# EAGLE library part 2QSP16-8E (library resistor-bourns)
BOURNS RESISTOR NETWORK
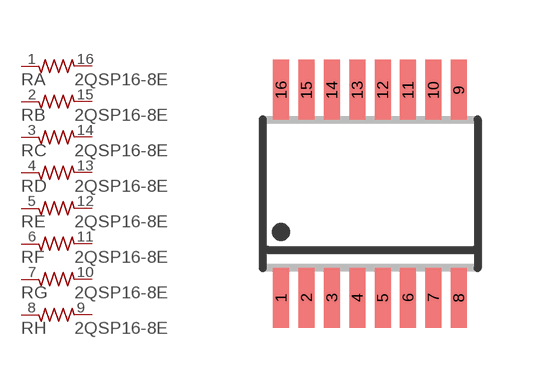
[diagram p13: symbol with the pads of 2QSP16; footprint 2QSP16]

Designator prefix R; gates A=R1NV B=R1NV C=R1NV D=R1NV E=R1NV F=R1NV G=R1NV H=R1NV

## 2QSP16-8E  [2QSP16]
1  A:1  pas
2  B:1  pas
3  C:1  pas
4  D:1  pas
5  E:1  pas
6  F:1  pas
7  G:1  pas
8  H:1  pas
9  H:2  pas
10  G:2  pas
11  F:2  pas
12  E:2  pas
13  D:2  pas
14  C:2  pas
15  B:2  pas
16  A:2  pas

## Footprint 2QSP16 (pad centres in mm)
BOURNS RESISTOR NETWORK
smd 0.4 x 1.5: 1 -2.223,-2.6; 2 -1.588,-2.6; 3 -0.953,-2.6; 4 -0.318,-2.6; 5 0.318,-2.6; 6 0.953,-2.6; 7 1.588,-2.6; 8 2.223,-2.6; 9 2.223,2.6; 10 1.588,2.6; 11 0.953,2.6; 12 0.318,2.6; 13 -0.318,2.6; 14 -0.953,2.6; 15 -1.588,2.6; 16 -2.223,2.6